# EAGLE library part STM32F042F4PX (library pixel_masterlib)
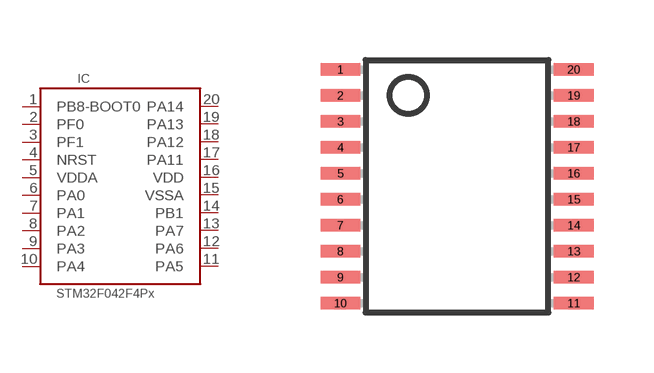
[diagram p2: symbol with the pads of TSSOP20; footprint TSSOP20]

Designator prefix IC

## STM32F042F4PX (COMPEL: http://www.compel.ru/infosheet/ST/STM32F042F4P6/; MANF: STMicroelectronics; MANF#: STM32F042F4P6)  [TSSOP20]
1  PB8-BOOT0
2  PF0
3  PF1
4  NRST
5  VDDA
6  PA0
7  PA1
8  PA2
9  PA3
10  PA4
11  PA5
12  PA6
13  PA7
14  PB1
15  VSSA
16  VDD
17  PA11
18  PA12
19  PA13
20  PA14

## Footprint TSSOP20 (pad centres in mm)
Thin Shrink Small Outline Plastic 20 MAX3223-MAX3243.pdf
smd 0.991 x 0.305: 1 -2.918,2.925; 2 -2.918,2.275; 3 -2.918,1.625; 4 -2.918,0.975; 5 -2.918,0.325; 6 -2.918,-0.325; 7 -2.918,-0.975; 8 -2.918,-1.625; 9 -2.918,-2.275; 10 -2.918,-2.925; 11 2.918,-2.925; 12 2.918,-2.275; 13 2.918,-1.625; 14 2.918,-0.975; 15 2.918,-0.325; 16 2.918,0.325; 17 2.918,0.975; 18 2.918,1.625; 19 2.918,2.275; 20 2.918,2.925